# Altium footprint library STM8S003F3U.PcbLib: 3 footprints
Each footprint in its own frame and in the unit in brackets; x right, y up, seen from the top. Pads: shape width x height; smd on the part's side, far side on the other; paste and mask are expansions set on the pad; w line width, h text height; cw(c..) or ccw(c..) is an arc to the next point about the centre after c.
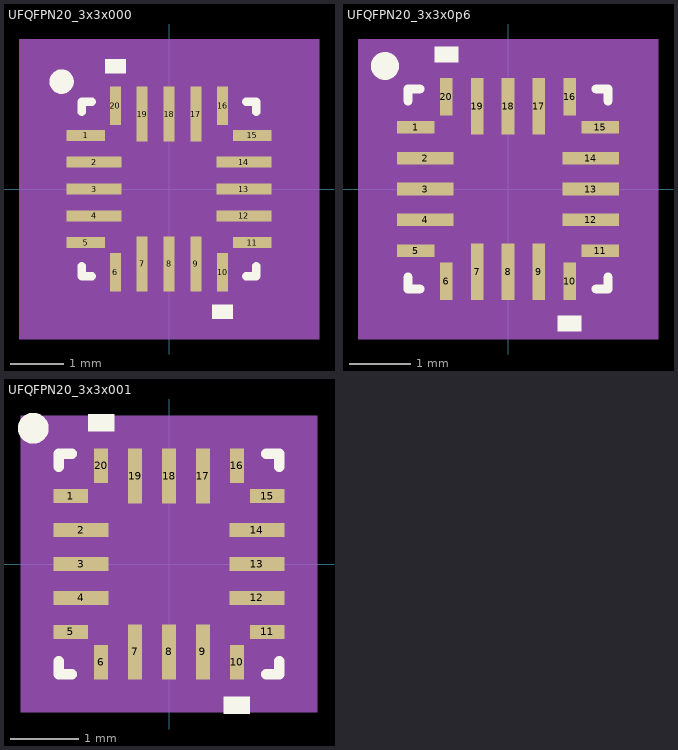
[diagram p0: the footprints below, top view; thin cyan lines are the x and y axes]

## UFQFPN20_3x3x000 [mil]
pads (20):
  rect 28x8 smd paste+0 mask+0: 1(-61,39.37) 5(-61,-39.37) 11(61,-39.37) 15(61,39.37)
  rect 40x8 smd paste+0 mask+0: 2(-55,19.68) 3(-55,0) 4(-55,-19.68) 12(55,-19.68) 13(55,0) 14(55,19.68)
  rect 8x28 smd paste+0 mask+0: 6(-39.37,-61) 10(39.37,-61) 16(39.37,61) 20(-39.37,61)
  rect 8x40 smd paste+0 mask+0: 7(-19.68,-55) 8(0,-55) 9(19.68,-55) 17(19.68,55) 18(0,55) 19(-19.68,55)
Top Overlay:
  circle w10: c-78.74,78.74 r3.94
  region: 46.87,-85 31.87,-85 31.87,-95 46.87,-95
  region: -31.87,85 -46.87,85 -46.87,95 -31.87,95
  lines w6: -64,-56.47 -64,-64 -56.47,-64 ; -64,56.47 -64,64 -56.47,64 ; 56.47,-64 64,-64 64,-56.47 ; 56.47,64 64,64 64,56.47
Mechanical 5:
  region: 110,-110 -110,-110 -110,110 110,110
Mechanical 13:
  lines w1: -59,9 -9,59 ; -59,-59 59,-59 59,59 -59,59 -59,-59 ; -59,-43.37 -59,-35.37 -59,-43.37 ; -59,-23.68 -59,-15.69 -59,-23.68 ; -59,-4 -59,4 -59,-4 ; -59,15.69 -59,23.68 -59,15.69 ; -59,35.37 -59,43.37 -59,35.37 ; -43.37,-59 -35.37,-59 -43.37,-59 ; -43.37,59 -35.37,59 -43.37,59 ; -23.68,-59 -15.69,-59 -23.68,-59 ; -23.68,59 -15.69,59 -23.68,59 ; -4,-59 4,-59 -4,-59 ; -4,59 4,59 -4,59 ; 15.69,-59 23.68,-59 15.69,-59 ; 15.69,59 23.68,59 15.69,59 ; 35.37,-59 43.37,-59 35.37,-59 ; 35.37,59 43.37,59 35.37,59 ; 59,-43.37 59,-35.37 59,-43.37 ; 59,-23.68 59,-15.69 59,-23.68 ; 59,-4 59,4 59,-4 ; 59,15.69 59,23.68 59,15.69 ; 59,35.37 59,43.37 59,35.37
Mechanical 15:
  region: -49.21,-79 -79,-79 -79,-49.21 -91,-49.21 -91,49.21 -79,49.21 -79,79 -49.21,79 -49.21,91 49.21,91 49.21,79 79,79 79,49.21 91,49.21 91,-49.21 79,-49.21 79,-79 49.21,-79 49.21,-91 -49.21,-91
  lines w6: -91,-49.21 -79,-49.21 -79,-79 -49.21,-79 -49.21,-91 49.21,-91 49.21,-79 79,-79 79,-49.21 91,-49.21 91,49.21 79,49.21 79,79 49.21,79 49.21,91 -49.21,91 -49.21,79 -79,79 -79,49.21 -91,49.21 -91,-49.21
3D body: height 10, standoff 0, extent 0,0 10,10
3D body "UFQFPN20_3x3x000.step": height 339.06, standoff 314.96, extent -59.01,-59.01 59.02,59.02

## UFQFPN20_3x3x0p6 [mil]
pads (20):
  rect 24x8 smd paste+0 mask+0: 1(-59,39.37) 5(-59,-39.37) 11(59,-39.37) 15(59,39.37)
  rect 36x8 smd paste+0 mask+0: 2(-53,19.68) 3(-53,0) 4(-53,-19.68) 12(53,-19.68) 13(53,0) 14(53,19.68)
  rect 8x24 smd paste+0 mask+0: 6(-39.37,-59) 10(39.37,-59) 16(39.37,59) 20(-39.37,59)
  rect 8x36 smd paste+0 mask+0: 7(-19.68,-53) 8(0,-53) 9(19.68,-53) 17(19.68,53) 18(0,53) 19(-19.68,53)
Top Overlay:
  circle w10: c-78.74,78.74 r3.94
  region: 46.87,-81 31.87,-81 31.87,-91 46.87,-91
  region: -31.87,81 -46.87,81 -46.87,91 -31.87,91
  lines w6: -64,-56.47 -64,-64 -56.47,-64 ; -64,56.47 -64,64 -56.47,64 ; 56.47,-64 64,-64 64,-56.47 ; 56.47,64 64,64 64,56.47
Mechanical 5:
  region: 96,-96 -96,-96 -96,96 96,96
Mechanical 13:
  lines w1: -59,9 -9,59 ; -59,-59 59,-59 59,59 -59,59 -59,-59 ; -59,-43.37 -59,-35.37 -59,-43.37 ; -59,-23.68 -59,-15.69 -59,-23.68 ; -59,-4 -59,4 -59,-4 ; -59,15.69 -59,23.68 -59,15.69 ; -59,35.37 -59,43.37 -59,35.37 ; -43.37,-59 -35.37,-59 -43.37,-59 ; -43.37,59 -35.37,59 -43.37,59 ; -23.68,-59 -15.69,-59 -23.68,-59 ; -23.68,59 -15.69,59 -23.68,59 ; -4,-59 4,-59 -4,-59 ; -4,59 4,59 -4,59 ; 15.69,-59 23.68,-59 15.69,-59 ; 15.69,59 23.68,59 15.69,59 ; 35.37,-59 43.37,-59 35.37,-59 ; 35.37,59 43.37,59 35.37,59 ; 59,-43.37 59,-35.37 59,-43.37 ; 59,-23.68 59,-15.69 59,-23.68 ; 59,-4 59,4 59,-4 ; 59,15.69 59,23.68 59,15.69 ; 59,35.37 59,43.37 59,35.37
Mechanical 15:
  region: -49.21,-69 -69,-69 -69,-49.21 -81,-49.21 -81,49.21 -69,49.21 -69,69 -49.21,69 -49.21,81 49.21,81 49.21,69 69,69 69,49.21 81,49.21 81,-49.21 69,-49.21 69,-69 49.21,-69 49.21,-81 -49.21,-81
  lines w6: -81,-49.21 -69,-49.21 -69,-69 -49.21,-69 -49.21,-81 49.21,-81 49.21,-69 69,-69 69,-49.21 81,-49.21 81,49.21 69,49.21 69,69 49.21,69 49.21,81 -49.21,81 -49.21,69 -69,69 -69,49.21 -81,49.21 -81,-49.21
3D body: height 10, standoff 0, extent 0,0 10,10
3D body "UFQFPN20_3x3x0p6.step": height 24.09, standoff 0, extent -59,-59 59.03,59.02

## UFQFPN20_3x3x001 [mil]
pads (20):
  rect 20x8 smd paste+0 mask+0: 1(-57,39.37) 5(-57,-39.37) 11(57,-39.37) 15(57,39.37)
  rect 32x8 smd paste+0 mask+0: 2(-51,19.68) 3(-51,0) 4(-51,-19.68) 12(51,-19.68) 13(51,0) 14(51,19.68)
  rect 8x20 smd paste+0 mask+0: 6(-39.37,-57) 10(39.37,-57) 16(39.37,57) 20(-39.37,57)
  rect 8x32 smd paste+0 mask+0: 7(-19.68,-51) 8(0,-51) 9(19.68,-51) 17(19.68,51) 18(0,51) 19(-19.68,51)
Top Overlay:
  circle w10: c-78.74,78.74 r3.94
  region: 46.87,-77 31.87,-77 31.87,-87 46.87,-87
  region: -31.87,77 -46.87,77 -46.87,87 -31.87,87
  lines w6: -64,-56.47 -64,-64 -56.47,-64 ; -64,56.47 -64,64 -56.47,64 ; 56.47,-64 64,-64 64,-56.47 ; 56.47,64 64,64 64,56.47
Mechanical 5:
  region: 86,-86 -86,-86 -86,86 86,86
Mechanical 13:
  lines w1: -59,9 -9,59 ; -59,-59 59,-59 59,59 -59,59 -59,-59 ; -59,-43.37 -59,-35.37 -59,-43.37 ; -59,-23.68 -59,-15.69 -59,-23.68 ; -59,-4 -59,4 -59,-4 ; -59,15.69 -59,23.68 -59,15.69 ; -59,35.37 -59,43.37 -59,35.37 ; -43.37,-59 -35.37,-59 -43.37,-59 ; -43.37,59 -35.37,59 -43.37,59 ; -23.68,-59 -15.69,-59 -23.68,-59 ; -23.68,59 -15.69,59 -23.68,59 ; -4,-59 4,-59 -4,-59 ; -4,59 4,59 -4,59 ; 15.69,-59 23.68,-59 15.69,-59 ; 15.69,59 23.68,59 15.69,59 ; 35.37,-59 43.37,-59 35.37,-59 ; 35.37,59 43.37,59 35.37,59 ; 59,-43.37 59,-35.37 59,-43.37 ; 59,-23.68 59,-15.69 59,-23.68 ; 59,-4 59,4 59,-4 ; 59,15.69 59,23.68 59,15.69 ; 59,35.37 59,43.37 59,35.37
Mechanical 15:
  region: -49.21,-63 -63,-63 -63,-49.21 -75,-49.21 -75,49.21 -63,49.21 -63,63 -49.21,63 -49.21,75 49.21,75 49.21,63 63,63 63,49.21 75,49.21 75,-49.21 63,-49.21 63,-63 49.21,-63 49.21,-75 -49.21,-75
  lines w6: -75,-49.21 -63,-49.21 -63,-63 -49.21,-63 -49.21,-75 49.21,-75 49.21,-63 63,-63 63,-49.21 75,-49.21 75,49.21 63,49.21 63,63 49.21,63 49.21,75 -49.21,75 -49.21,63 -63,63 -63,49.21 -75,49.21 -75,-49.21
3D body: height 10, standoff 0, extent 0,0 10,10
3D body "UFQFPN20_3x3x0p6.step": height 339.06, standoff 314.96, extent -59.01,-59.01 59.02,59.02